# Altium footprint library SnapEDApcb.PcbLib: 1 footprints
Each footprint in its own frame and in the unit in brackets; x right, y up, seen from the top. Pads: shape width x height; smd on the part's side, far side on the other; paste and mask are expansions set on the pad; w line width, h text height; cw(c..) or ccw(c..) is an arc to the next point about the centre after c.
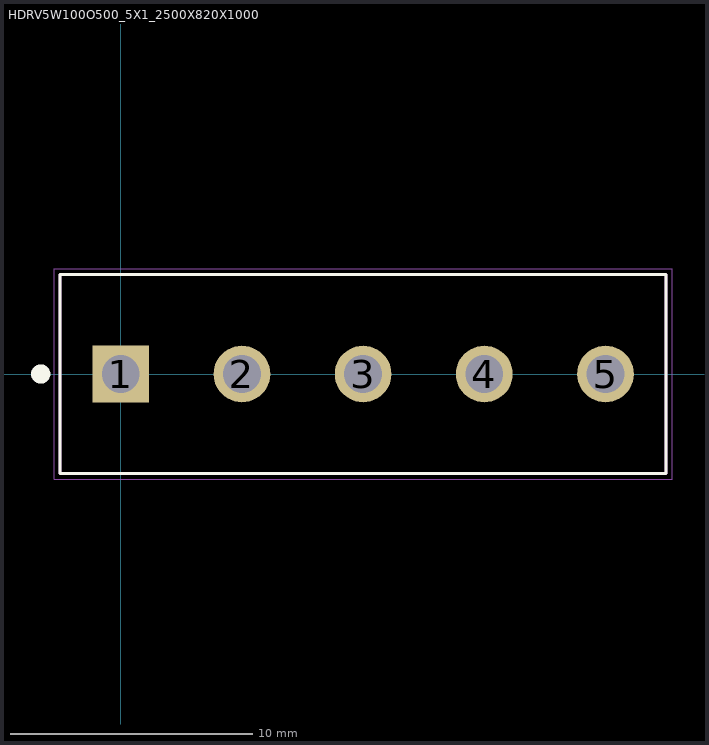
[diagram p0: the footprint, top view; thin cyan lines are the x and y axes]

## HDRV5W100O500_5X1_2500X820X1000 [mm]
pads (5):
  rect 2.34x2.34 hole 1.56: 1(0,0)
  round 2.34 hole 1.56: 2(5,0) 3(10,0) 4(15,0) 5(20,0)
Top Overlay:
  circle w0.4: c-3.302,0 r0.2
  lines w0.127: -2.5,-4.1 -2.5,4.1 22.5,4.1 22.5,-4.1 -2.5,-4.1
Mechanical 13:
  lines w0.127: -2.5,-4.1 -2.5,4.1 22.5,4.1 22.5,-4.1 -2.5,-4.1
Mechanical 15:
  lines w0.05: -2.75,-4.35 -2.75,4.35 22.75,4.35 22.75,-4.35 -2.75,-4.35